# EAGLE library part GD25Q16CTEGR (library GD25Q16CTEGR)
NOR Flash 16Mbit NOR Flash /3.3V /SOP8 150mil /Industrial(-40? to +125?) /T&R Source: Datasheet <http://www.gigadevice.com/datasheet/gd25q16c/>
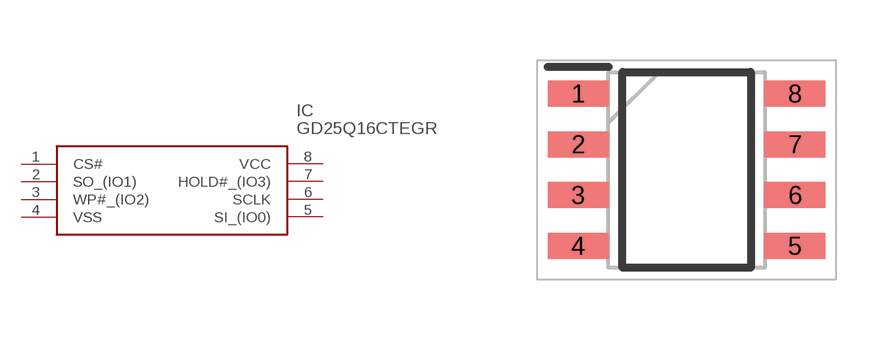
[diagram p0: symbol with the pads of SOIC127P600X175-8N; footprint SOIC127P600X175-8N]

Designator prefix IC

## GD25Q16CTEGR (Description: NOR Flash 16Mbit NOR Flash /3.3V /SOP8 150mil /Industrial(-40? to +125?) /T&R; Height: 1.75mm; Manufacturer_Name: GigaDevice Semiconductor (HK) Limited; Manufacturer_Part_Number: GD25Q16CTEGR; Mouser_Part_Number: 363-GD25Q16CTEGR; Mouser_Price-Stock: https://www.mouser.co.uk/ProductDetail/GigaDevice/GD25Q16CTEGR?qs=RcG8xmE7yp3MEpo4fCwTkQ%3D%3D)  [SOIC127P600X175-8N]
1  CS#
2  SO_(IO1)
3  WP#_(IO2)
4  VSS
5  SI_(IO0)
6  SCLK
7  HOLD#_(IO3)
8  VCC

## Footprint SOIC127P600X175-8N (pad centres in mm)
SOP8 150MIL
smd 1.525 x 0.65: 1 -2.712,1.905; 2 -2.712,0.635; 3 -2.712,-0.635; 4 -2.712,-1.905; 5 2.712,-1.905; 6 2.712,-0.635; 7 2.712,0.635; 8 2.712,1.905